# Altium schematic symbol library LEDs.SchLib: 2 symbols
Pins are listed as number, name and electrical type; pins without a type are passive.

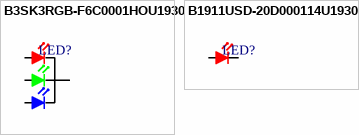
[diagram p0: symbols B3SK3RGB-F6C0001HOU1930 to B1911USD-20D000114U1930]

## B3SK3RGB-F6C0001HOU1930
designator LED?  (value not drawn)
LED RGB COMMON CATHODE (0.95(L)X; Package / Case: 4-SMD; Mounted: Yes; Supplier 1: Digi-Key; Supplier Part Number 1: 3147-B3SK3RGB-F6C0001HOU1930TR-ND
footprint LED-4-SMD-0.95
pins: 1 K, 2 R, 3 G, 4 B

## B1911USD-20D000114U1930
designator LED?  (value not drawn)
LED RED CLEAR 1608 SMD; Package / Case: 0603 (1608 Metric); Mounted: Yes; Supplier 1: Digi-Key; Supplier Part Number 1: 3147-B1911USD-20D000114U1930CT-ND
footprint LED-0603-2PIN (Metric 1608, EIA 0603. Per Yageo Product Specification V2.2)
pins: 1 K, 2 R